# Altium footprint library REMOTER.PcbLib: 3 footprints
Each footprint in its own frame and in the unit in brackets; x right, y up, seen from the top. Pads: shape width x height; smd on the part's side, far side on the other; paste and mask are expansions set on the pad; w line width, h text height; cw(c..) or ccw(c..) is an arc to the next point about the centre after c.
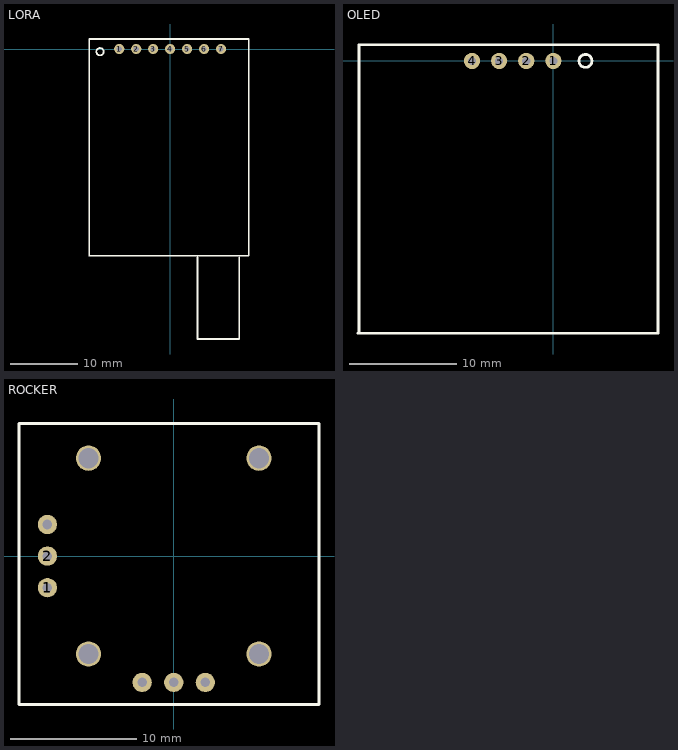
[diagram p0: the footprints below, top view; thin cyan lines are the x and y axes]

## LORA [mil]
pads (7):
  round 60 hole 30: 1(-300,0) 2(-200,0) 3(-100,0) 4(0,0) 5(100,0) 6(200,0) 7(300,0)
Top Overlay:
  circle w10: c-413.39,-15.75 r21.42
  lines w10: -477.36,59.06 -477.36,-1218.5 -476.57,-1219.29 -405.51,-1219.29 463.78,-1219.29 463.78,59.06 -472.44,59.06 ; 161.42,-1227.17 161.42,-1709.06 407.87,-1709.06 407.87,-1227.95

## OLED [mil]
pads (4):
  round 60 hole 30: 1(0,0) 2(-100,0) 3(-200,0) 4(-300,0)
Top Overlay:
  circle w10: c118.11,0 r23.95
  lines w10: -720.47,-1003.94 -444.88,-1003.94 106.3,-1003.94 385.83,-1003.94 385.83,59.06 -716.54,59.06 -716.54,-1003.94

## ROCKER [mm]
pads (10):
  round 1.524 hole 0.762: 1(-10,-2.5) 2(-10,0) ""(-10,2.5) ""(-2.5,-10) ""(0,-10) ""(2.5,-10)
  round 2 hole 1.6: ""(-6.75,-7.75) ""(-6.75,7.75) ""(6.75,-7.75) ""(6.75,7.75)
Top Overlay:
  lines w0.254: -12.25,-11.75 11.5,-11.75 11.5,9.5 11.5,10.5 10.25,10.5 8.812,10.5 -12.25,10.5 -12.25,-11.75